# Altium footprint library HP48GX3.PcbLib: 18 footprints (part 1 of 2)
Each footprint in its own frame and in the unit in brackets; x right, y up, seen from the top. Pads: shape width x height; smd on the part's side, far side on the other; paste and mask are expansions set on the pad; w line width, h text height; cw(c..) or ccw(c..) is an arc to the next point about the centre after c.
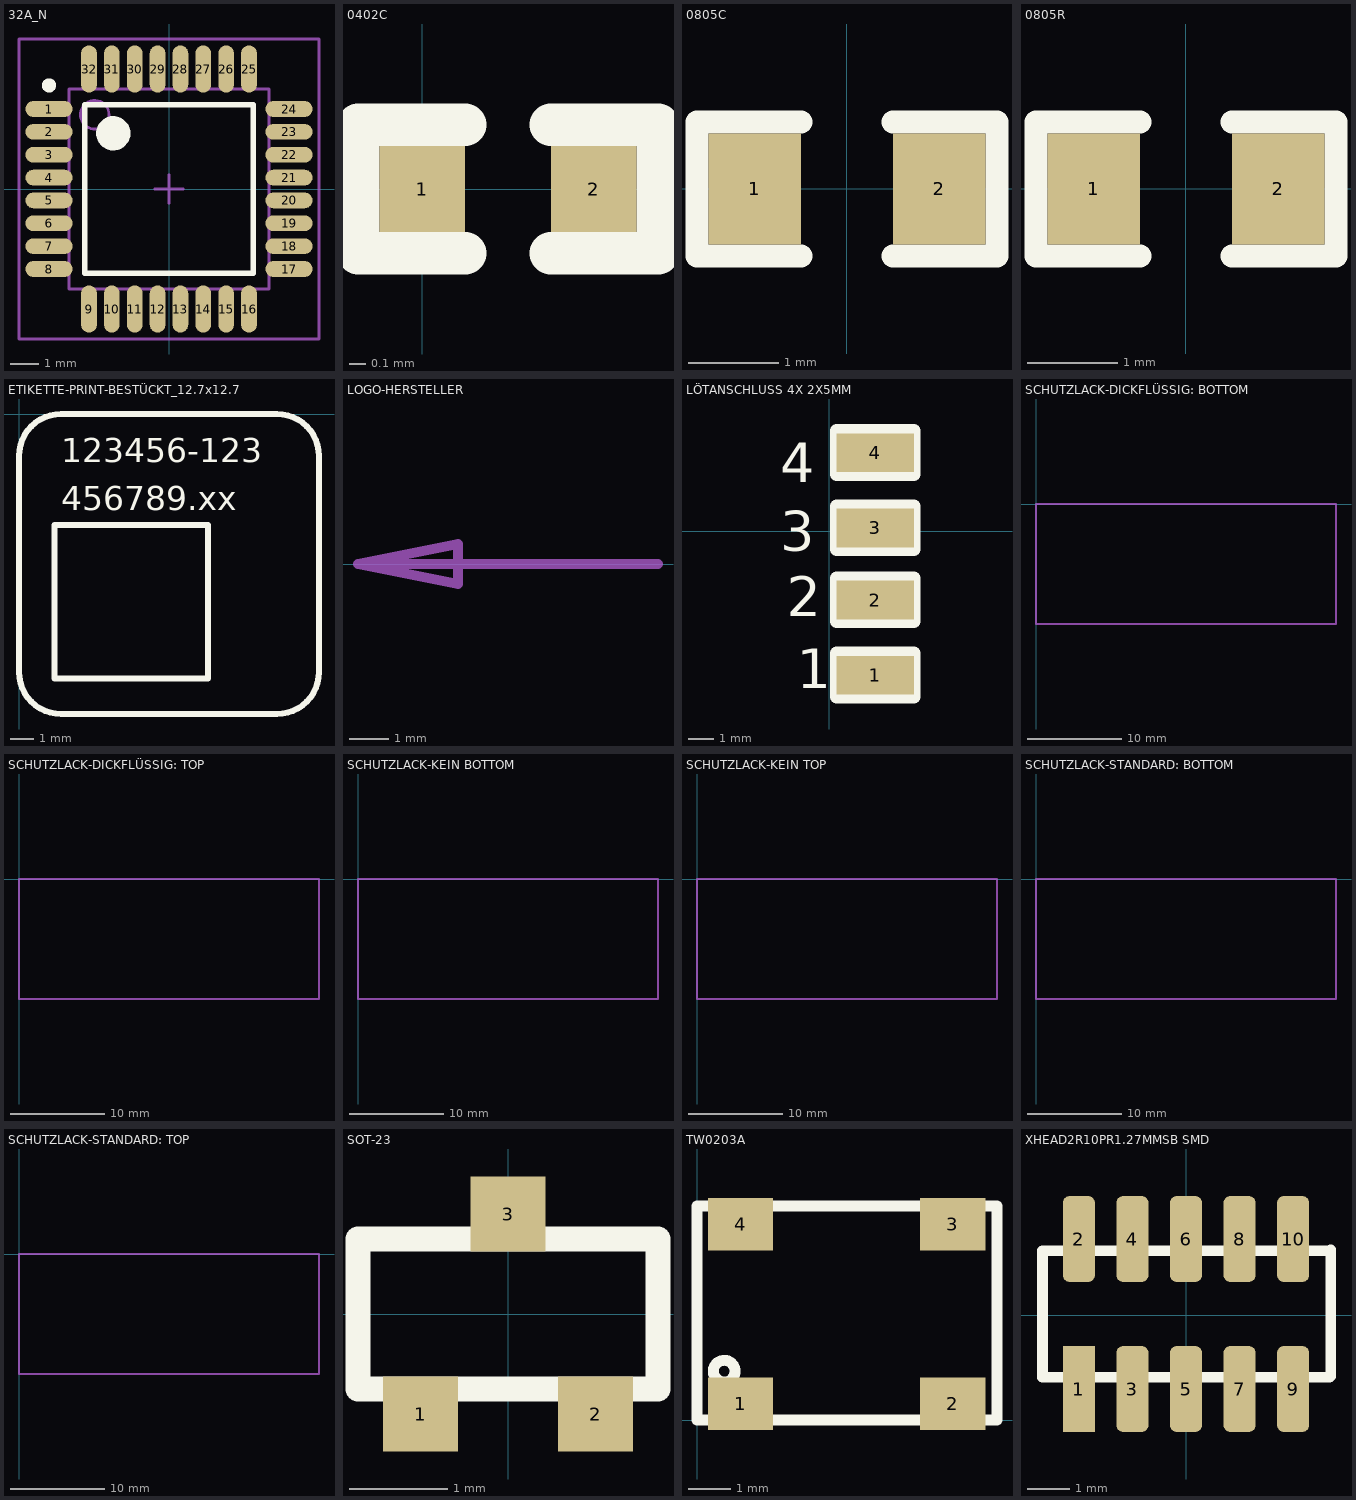
[diagram p0: the footprints below, top view; thin cyan lines are the x and y axes]

## 32A_N [mm] "Thin QFP, 32-Leads, Body 7x7mm, Pitch 0.8mm, IPC Medium Density"
height 1.2
pads (32):
  oval 1.65x0.55 smd: 1(-4.2,2.8) 2(-4.2,2) 3(-4.2,1.2) 4(-4.2,0.4) 5(-4.2,-0.4) 6(-4.2,-1.2) 7(-4.2,-2) 8(-4.2,-2.8) 17(4.2,-2.8) 18(4.2,-2) 19(4.2,-1.2) 20(4.2,-0.4) 21(4.2,0.4) 22(4.2,1.2) 23(4.2,2) 24(4.2,2.8)
  oval 0.55x1.65 smd: 9(-2.8,-4.2) 10(-2,-4.2) 11(-1.2,-4.2) 12(-0.4,-4.2) 13(0.4,-4.2) 14(1.2,-4.2) 15(2,-4.2) 16(2.8,-4.2) 25(2.8,4.2) 26(2,4.2) 27(1.2,4.2) 28(0.4,4.2) 29(-0.4,4.2) 30(-1.2,4.2) 31(-2,4.2) 32(-2.8,4.2)
Top Overlay:
  circle w0.25: c-4.2,3.625 r0.125
  circle w0.6: c-1.95,1.95 r0.3
  lines w0.2: -2.95,-2.95 -2.95,2.95 2.95,2.95 2.95,-2.95 -2.95,-2.95
Mechanical 13:
  circle w0.1: c-2.6,2.6 r0.5
  lines w0.1: -3.5,-3.5 -3.5,3.5 3.5,3.5 3.5,-3.5 -3.5,-3.5
Mechanical 15:
  lines w0.1: -0.5,0 0.5,0 ; 0,-0.5 0,0.5 ; -5.25,-5.25 -5.25,5.25 5.25,5.25 5.25,-5.25 -5.25,-5.25
3D body: height 1.2, standoff 0, extent -3.5,-3.5 3.5,3.5

## 0402C [mil]
pads (2):
  rect 20x20 smd: 1(0,0) 2(40,0)
Top Overlay:
  lines w10: 10,-15 -15,-15 -15,15 10,15 ; 30,-15 55,-15 55,15 30,15
3D body "0402C.stp": height 22, standoff 0, extent 0,-10 40,10

## 0805C [mil]
pads (2):
  rect 40x48 smd: 1(-40,0) 2(40,0)
Top Overlay:
  lines w10: -20,-29 -65,-29 -65,29 -20,29 ; 20,-29 65,-29 65,29 20,29
3D body "0805C.stp": height 50, standoff 0, extent -40,-25 40,25

## 0805R [mil]
pads (2):
  rect 40x48 smd: 1(-40,0) 2(40,0)
Top Overlay:
  lines w10: -20,-29 -65,-29 -65,29 -20,29 ; 20,-29 65,-29 65,29 20,29
3D body "0805R.stp": height 20, standoff 0, extent -40,-25 40,25

## ETIKETTE-PRINT-BESTÜCKT_12.7x12.7 [mil]
Top Overlay:
  lines w10: 0,-430 ccw(c70,-430) 70,-500 430,-500 ccw(c430,-430) 500,-430 500,-70 ccw(c430,-70) 430,0 70,0 ccw(c70,-70) 0,-70 0,-430 ; 59.06,-440.94 314.96,-440.94 314.96,-185.04 59.06,-185.04 59.06,-440.94
  text "123456-123" at 70,-80 h40
  text "456789.xx" at 70,-160 h40
3D body "ETIKETTE-PRINT-BESTÜCKT_12.7x12.7.stp": height 4.33, standoff 0, extent 0,-500 500,0

## LOGO-HERSTELLER [mil]
Mechanical 12:
  lines w10: -200,0 -500,0 ; -500,0 -400,20 -400,-20 -500,0
  text "on TopSolder" at 0,-520 h100
  text "UL / 94-V0" at 0,-360 h100
  text "Logo / Date," at 0,-180 h100
  text "Manufacturer" at 0,0 h100

## LÖTANSCHLUSS 4X 2X5MM [mil]
pads (4):
  rect 118.11x59.06 smd paste-50: 1(70,-220) 2(70,-105) 3(70,5) 4(70,120)
Top Overlay:
  lines w20: 10.94,-253.07 129.06,-253.07 129.06,-186.14 10.94,-186.14 10.94,-253.07 ; 10.94,-138.07 10.94,-71.14 129.06,-71.14 129.06,-138.07 10.94,-138.07 ; 10.94,-28.07 129.06,-28.07 129.06,38.86 10.94,38.86 10.94,-28.07 ; 10.94,86.93 10.94,153.86 129.06,153.86 129.06,86.93 10.94,86.93
  text "2" at -65,-130 h60
  text "1" at -50,-240 h60
  text "4" at -75,75 h60
  text "3" at -75,-30 h60

## SCHUTZLACK-DICKFLÜSSIG: BOTTOM [mil]
height 177.17
Mechanical 16:
  lines w10: 0,-500 1250,-500 1250,0 0,0 0,-500
Mechanical 23:
  text "viscous, transparent," at 50,-300 h80
  text "Coating Bottom:" at 50,-150 h80
  text "fluorescent" at 50,-450 h80

## SCHUTZLACK-DICKFLÜSSIG: TOP [mil]
height 177.17
Mechanical 16:
  lines w10: 0,-500 0,0 1250,0 1250,-500 0,-500
Mechanical 20:
  text "viscous, transparent," at 50,-300 h80
  text "Coating Top:" at 50,-150 h80
  text "fluorescent" at 50,-450 h80

## SCHUTZLACK-KEIN BOTTOM [mil]
height 177.17
Mechanical 16:
  lines w10: 0,-500 1250,-500 1250,0 0,0 0,-500
Mechanical 24:
  text "Red marked /" at 50,-300 h80
  text "NO Coating Bottom:" at 50,-150 h80
  text "hatched area" at 50,-450 h80

## SCHUTZLACK-KEIN TOP [mil]
Mechanical 16:
  lines w10: 0,-500 0,0 1250,0 1250,-500 0,-500
Mechanical 21:
  text "NO Coating Top:" at 50,-150 h80
  text "Red marked /" at 50,-300 h80
  text "hatched area" at 50,-450 h80

## SCHUTZLACK-STANDARD: BOTTOM [mil]
height 177.17
Mechanical 16:
  lines w10: 0,-500 1250,-500 1250,0 0,0 0,-500
Mechanical 22:
  text "fluorescent" at 50,-450 h80
  text "Coating Bottom:" at 50,-150 h80
  text "default, transparent," at 50,-300 h80

## SCHUTZLACK-STANDARD: TOP [mil]
Mechanical 16:
  lines w10: 0,-500 1250,-500 1250,0 0,0 0,-500
Mechanical 19:
  text "fluorescent" at 50,-450 h80
  text "Coating Top:" at 50,-150 h80
  text "default, transparent," at 50,-300 h80

## SOT-23 [mil]
pads (3):
  rect 30x30 smd: 1(-35,-40) 2(35,-40) 3(0,40)
Top Overlay:
  lines w10: -35,-45 -35,-30 ; 0,30 0,45 ; 35,-45 35,-30 ; -60,-30 -60,30 60,30 60,-30 -60,-30
3D body "SOT-23.stp": height 39.37, standoff 0, extent -57.08,-47.25 57.09,47.24

## TW0203A [mil]
height 51
pads (4):
  rect 60x48 smd: 1(40,15) 2(235,15) 3(235,180) 4(40,180)
Top Overlay:
  circle w10: c25,45 r10
  lines w10: 0,0 275.59,0 275.59,196.85 0,196.85 0,0

## XHEAD2R10PR1.27MMSB SMD [mil]
height 177.17
pads (10):
  rect 30x80 smd: 1(-100,-69)
  rrect40% 30x80 smd: 2(-100,71) 3(-50,-69) 4(-50,71) 5(0,-69) 6(0,71) 7(50,-69) 8(50,71) 9(100,-69) 10(100,71)
Top Layer:
  text "1" at -195,-135 h60
Top Overlay:
  lines w10: -134,-58 126,-58 134,-58 135,-57 135,61 134,60 126,60 -134,60 -134,-58
Top Solder:
  text "1" at -195,-135 h60